# Altium footprint library ATSAMD21J18A-AU.PcbLib: 3 footprints
Each footprint in its own frame and in the unit in brackets; x right, y up, seen from the top. Pads: shape width x height; smd on the part's side, far side on the other; paste and mask are expansions set on the pad; w line width, h text height; cw(c..) or ccw(c..) is an arc to the next point about the centre after c.
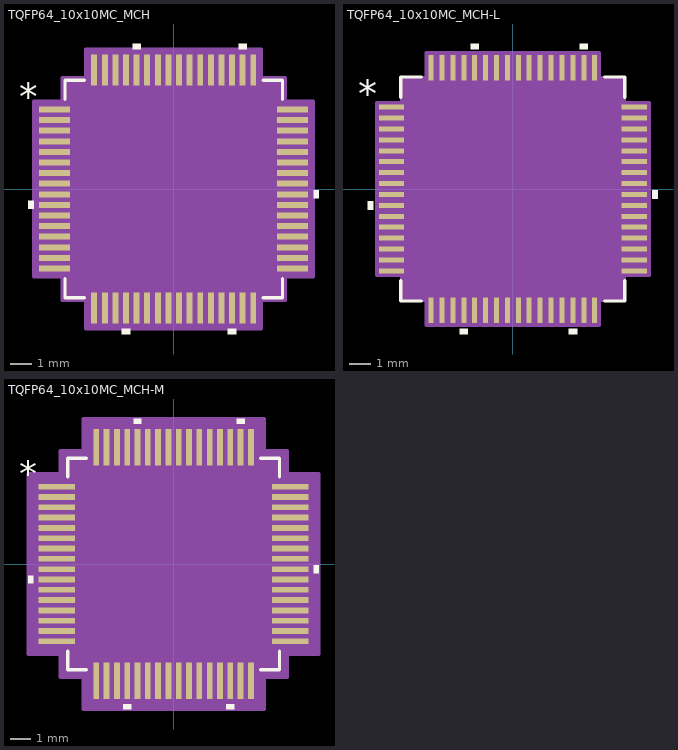
[diagram p0: the footprints below, top view; thin cyan lines are the x and y axes]

## TQFP64_10x10MC_MCH [mil]
pads (64):
  rect 57.56x11 smd paste+0 mask+0: 1(-221,147.64) 2(-221,127.95) 3(-221,108.27) 4(-221,88.58) 5(-221,68.9) 6(-221,49.21) 7(-221,29.53) 8(-221,9.84) 9(-221,-9.84) 10(-221,-29.53) 11(-221,-49.21) 12(-221,-68.9) 13(-221,-88.58) 14(-221,-108.27) 15(-221,-127.95) 16(-221,-147.64) 33(221,-147.64) 34(221,-127.95) 35(221,-108.27) 36(221,-88.58) 37(221,-68.9) 38(221,-49.21) 39(221,-29.53) 40(221,-9.84) 41(221,9.84) 42(221,29.53) 43(221,49.21) 44(221,68.9) 45(221,88.58) 46(221,108.27) 47(221,127.95) 48(221,147.64)
  rect 11x57.56 smd paste+0 mask+0: 17(-147.64,-221) 18(-127.95,-221) 19(-108.27,-221) 20(-88.58,-221) 21(-68.9,-221) 22(-49.21,-221) 23(-29.53,-221) 24(-9.84,-221) 25(9.84,-221) 26(29.53,-221) 27(49.21,-221) 28(68.9,-221) 29(88.58,-221) 30(108.27,-221) 31(127.95,-221) 32(147.64,-221) 49(147.64,221) 50(127.95,221) 51(108.27,221) 52(88.58,221) 53(68.9,221) 54(49.21,221) 55(29.53,221) 56(9.84,221) 57(-9.84,221) 58(-29.53,221) 59(-49.21,221) 60(-68.9,221) 61(-88.58,221) 62(-108.27,221) 63(-127.95,221) 64(-147.64,221)
Top Overlay:
  region: -259.78,-22.03 -269.78,-22.03 -269.78,-37.03 -259.78,-37.03
  region: -81.08,-259.78 -96.08,-259.78 -96.08,-269.78 -81.08,-269.78
  region: 115.77,-259.78 100.77,-259.78 100.77,-269.78 115.77,-269.78
  region: 259.78,-2.34 269.78,-2.34 269.78,-17.34 259.78,-17.34
  region: 135.45,259.78 120.45,259.78 120.45,269.78 135.45,269.78
  region: -61.4,259.78 -76.4,259.78 -76.4,269.78 -61.4,269.78
  lines w6: -202,-166.24 -202,-202 -166.24,-202 ; -202,166.24 -202,202 -166.24,202 ; 166.24,-202 202,-202 202,-166.24 ; 166.24,202 202,202 202,166.24
  text "*" at -287.28,147.48 h50
Mechanical 13:
  drawing of 261 lines, arcs and shapes, not listed
  text "*" at -194.5,132.48 h50
Mechanical 15:
  region: -163.14,-207 -207,-207 -207,-163.14 -259.78,-163.14 -259.78,163.14 -207,163.14 -207,207 -163.14,207 -163.14,259.78 163.14,259.78 163.14,207 207,207 207,163.14 259.78,163.14 259.78,-163.14 207,-163.14 207,-207 163.14,-207 163.14,-259.78 -163.14,-259.78
  lines w6: -259.78,-163.14 -207,-163.14 -207,-207 -163.14,-207 -163.14,-259.78 163.14,-259.78 163.14,-207 207,-207 207,-163.14 259.78,-163.14 259.78,163.14 207,163.14 207,207 163.14,207 163.14,259.78 -163.14,259.78 -163.14,207 -207,207 -207,163.14 -259.78,163.14 -259.78,-163.14
3D body "TQFP64_10x10MC_MCH.step": height 47.09, standoff 0, extent -235.98,-235.98 235.98,235.98

## TQFP64_10x10MC_MCH-L [mm]
pads (64):
  rect 1.162x0.229 smd paste+0 mask+0: 1(-5.563,3.75) 2(-5.563,3.25) 3(-5.563,2.75) 4(-5.563,2.25) 5(-5.563,1.75) 6(-5.563,1.25) 7(-5.563,0.75) 8(-5.563,0.25) 9(-5.563,-0.25) 10(-5.563,-0.75) 11(-5.563,-1.25) 12(-5.563,-1.75) 13(-5.563,-2.25) 14(-5.563,-2.75) 15(-5.563,-3.25) 16(-5.563,-3.75) 33(5.563,-3.75) 34(5.563,-3.25) 35(5.563,-2.75) 36(5.563,-2.25) 37(5.563,-1.75) 38(5.563,-1.25) 39(5.563,-0.75) 40(5.563,-0.25) 41(5.563,0.25) 42(5.563,0.75) 43(5.563,1.25) 44(5.563,1.75) 45(5.563,2.25) 46(5.563,2.75) 47(5.563,3.25) 48(5.563,3.75)
  rect 0.229x1.162 smd paste+0 mask+0: 17(-3.75,-5.563) 18(-3.25,-5.563) 19(-2.75,-5.563) 20(-2.25,-5.563) 21(-1.75,-5.563) 22(-1.25,-5.563) 23(-0.75,-5.563) 24(-0.25,-5.563) 25(0.25,-5.563) 26(0.75,-5.563) 27(1.25,-5.563) 28(1.75,-5.563) 29(2.25,-5.563) 30(2.75,-5.563) 31(3.25,-5.563) 32(3.75,-5.563) 49(3.75,5.563) 50(3.25,5.563) 51(2.75,5.563) 52(2.25,5.563) 53(1.75,5.563) 54(1.25,5.563) 55(0.75,5.563) 56(0.25,5.563) 57(-0.25,5.563) 58(-0.75,5.563) 59(-1.25,5.563) 60(-1.75,5.563) 61(-2.25,5.563) 62(-2.75,5.563) 63(-3.25,5.563) 64(-3.75,5.563)
Top Overlay:
  region: -6.398,-0.56 -6.652,-0.56 -6.652,-0.941 -6.398,-0.941
  region: -2.06,-6.398 -2.441,-6.398 -2.441,-6.652 -2.06,-6.652
  region: 2.94,-6.398 2.559,-6.398 2.559,-6.652 2.94,-6.652
  region: 6.398,-0.059 6.652,-0.059 6.652,-0.44 6.398,-0.44
  region: 3.441,6.398 3.06,6.398 3.06,6.652 3.441,6.652
  region: -1.559,6.398 -1.94,6.398 -1.94,6.652 -1.559,6.652
  lines w0.152: -5.131,-4.197 -5.131,-5.131 -4.197,-5.131 ; -5.131,4.197 -5.131,5.131 -4.197,5.131 ; 4.197,-5.131 5.131,-5.131 5.131,-4.197 ; 4.197,5.131 5.131,5.131 5.131,4.197
  text "*" at -7.097,3.746 h1.27
Mechanical 13:
  drawing of 261 lines, arcs and shapes, not listed
  text "*" at -4.94,3.365 h1.27
Mechanical 15:
  region: -3.966,-5.105 -5.105,-5.105 -5.105,-3.966 -6.246,-3.966 -6.246,3.966 -5.105,3.966 -5.105,5.105 -3.966,5.105 -3.966,6.246 3.966,6.246 3.966,5.105 5.105,5.105 5.105,3.966 6.246,3.966 6.246,-3.966 5.105,-3.966 5.105,-5.105 3.966,-5.105 3.966,-6.246 -3.966,-6.246
  lines w0.152: -6.246,-3.966 -5.105,-3.966 -5.105,-5.105 -3.966,-5.105 -3.966,-6.246 3.966,-6.246 3.966,-5.105 5.105,-5.105 5.105,-3.966 6.246,-3.966 6.246,3.966 5.105,3.966 5.105,5.105 3.966,5.105 3.966,6.246 -3.966,6.246 -3.966,5.105 -5.105,5.105 -5.105,3.966 -6.246,3.966 -6.246,-3.966
3D body "TQFP64_10x10MC_MCH.step": height 1.2, standoff 0, extent -5.994,-5.994 5.994,5.994

## TQFP64_10x10MC_MCH-M [mm]
pads (64):
  rect 1.762x0.279 smd paste+0 mask+0: 1(-5.663,3.75) 2(-5.663,3.25) 3(-5.663,2.75) 4(-5.663,2.25) 5(-5.663,1.75) 6(-5.663,1.25) 7(-5.663,0.75) 8(-5.663,0.25) 9(-5.663,-0.25) 10(-5.663,-0.75) 11(-5.663,-1.25) 12(-5.663,-1.75) 13(-5.663,-2.25) 14(-5.663,-2.75) 15(-5.663,-3.25) 16(-5.663,-3.75) 33(5.663,-3.75) 34(5.663,-3.25) 35(5.663,-2.75) 36(5.663,-2.25) 37(5.663,-1.75) 38(5.663,-1.25) 39(5.663,-0.75) 40(5.663,-0.25) 41(5.663,0.25) 42(5.663,0.75) 43(5.663,1.25) 44(5.663,1.75) 45(5.663,2.25) 46(5.663,2.75) 47(5.663,3.25) 48(5.663,3.75)
  rect 0.279x1.762 smd paste+0 mask+0: 17(-3.75,-5.663) 18(-3.25,-5.663) 19(-2.75,-5.663) 20(-2.25,-5.663) 21(-1.75,-5.663) 22(-1.25,-5.663) 23(-0.75,-5.663) 24(-0.25,-5.663) 25(0.25,-5.663) 26(0.75,-5.663) 27(1.25,-5.663) 28(1.75,-5.663) 29(2.25,-5.663) 30(2.75,-5.663) 31(3.25,-5.663) 32(3.75,-5.663) 49(3.75,5.663) 50(3.25,5.663) 51(2.75,5.663) 52(2.25,5.663) 53(1.75,5.663) 54(1.25,5.663) 55(0.75,5.663) 56(0.25,5.663) 57(-0.25,5.663) 58(-0.75,5.663) 59(-1.25,5.663) 60(-1.75,5.663) 61(-2.25,5.663) 62(-2.75,5.663) 63(-3.25,5.663) 64(-3.75,5.663)
Top Overlay:
  region: -6.798,-0.56 -7.052,-0.56 -7.052,-0.941 -6.798,-0.941
  region: -2.06,-6.798 -2.441,-6.798 -2.441,-7.052 -2.06,-7.052
  region: 2.94,-6.798 2.559,-6.798 2.559,-7.052 2.94,-7.052
  region: 6.798,-0.059 7.052,-0.059 7.052,-0.44 6.798,-0.44
  region: 3.441,6.798 3.06,6.798 3.06,7.052 3.441,7.052
  region: -1.559,6.798 -1.94,6.798 -1.94,7.052 -1.559,7.052
  lines w0.152: -5.131,-4.222 -5.131,-5.131 -4.222,-5.131 ; -5.131,4.222 -5.131,5.131 -4.222,5.131 ; 4.222,-5.131 5.131,-5.131 5.131,-4.222 ; 4.222,5.131 5.131,5.131 5.131,4.222
  text "*" at -7.497,3.746 h1.27
Mechanical 13:
  drawing of 261 lines, arcs and shapes, not listed
  text "*" at -4.94,3.365 h1.27
Mechanical 15:
  region: -4.398,-5.512 -5.512,-5.512 -5.512,-4.398 -7.052,-4.398 -7.052,4.398 -5.512,4.398 -5.512,5.512 -4.398,5.512 -4.398,7.052 4.398,7.052 4.398,5.512 5.512,5.512 5.512,4.398 7.052,4.398 7.052,-4.398 5.512,-4.398 5.512,-5.512 4.398,-5.512 4.398,-7.052 -4.398,-7.052
  lines w0.152: -7.052,-4.398 -5.512,-4.398 -5.512,-5.512 -4.398,-5.512 -4.398,-7.052 4.398,-7.052 4.398,-5.512 5.512,-5.512 5.512,-4.398 7.052,-4.398 7.052,4.398 5.512,4.398 5.512,5.512 4.398,5.512 4.398,7.052 -4.398,7.052 -4.398,5.512 -5.512,5.512 -5.512,4.398 -7.052,4.398 -7.052,-4.398
3D body "TQFP64_10x10MC_MCH.step": height 1.2, standoff 0, extent -5.994,-5.994 5.994,5.994